# Altium schematic symbol library COMMON_MODE_CHOKE.Schlib: 1 symbol
Pins are listed as number, name and electrical type; pins without a type are passive.

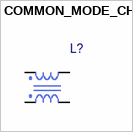
[diagram p0: symbol COMMON_MODE_CHOKE]

## COMMON_MODE_CHOKE
designator L?, comment L  (value not drawn)
Induction
pins: 1, 2, 3, 4
1 alternate drawing of the same symbol